# Altium integrated library NXP_Motor_Controllers.IntLib: 1 symbol
Pins are listed as number, name and electrical type; pins without a type are passive.

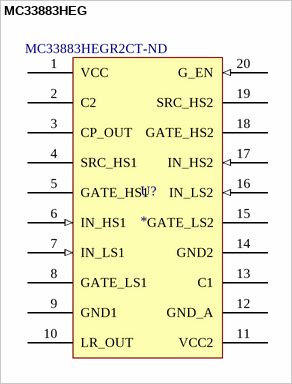
[diagram p0: symbol MC33883HEG]

## MC33883HEG
designator U?  Supplier Part Number 1: MC33883HEGR2CT-ND
IC H-BRIDGE PRE-DRIVER 20SOIC; Manufacturer: NXP; Manufacturer Part Number: MC33883HEGR2; Voltage Supply: 5.5 V ~ 28 V; Logic Voltage - VIL, VIH: 0.8V, 2V; Current - Peak Output (Source, Sink): 1A, 1A; Rise / Fall Time (Typ): 80ns, 80ns; Supplier 1: Digi-Key; Operating Temperature: -40°C ~ 150°C (TJ); Datasheet: http://cache.freescale.com/files/analog/doc/data_sheet/MC33883.pdf
footprint SOIC20_W
pins: 1 VCC (power) "Device power supply 1.", 2 C2 "External capacitor for internal charge pump.", 3 CP_OUT "External reservoir capacitor for internal charge pump.", 4 SRC_HS1 "Source of high-side 1 MOSFET.", 5 GATE_HS1 "Gate of high-side 1 MOSFET.", 6 IN_HS1 (in) "Logic input control of high-side 1 gate (i.e., IN_HS1 logic HIGH = GATE_HS1 HIGH).", 7 IN_LS1 (in) "Logic input control of low-side 1 gate (i.e., IN_HS1 logic HIGH = GATE_HS1 HIGH).", 8 GATE_LS1 "Gate of low-side 1 MOSFET.", 9 GND1 (power) "Device ground 1.", 10 LR_OUT (power) "Output of internal linear regulator.", 11 VCC2 (power) "Device power supply 2.", 12 GND_A (power) "Device analog ground.", 13 C1 "External capacitor for internal charge pump.", 14 GND2 (power) "Device ground 2.", 15 GATE_LS2 "Gate of low-side 2 MOSFET.", 16 IN_LS2 (in) "Logic input control of low-side 2 gate (i.e., IN_LS2 logic HIGH = GATE_LS2 HIGH).", 17 IN_HS2 (in) "Logic input control of high-side 2 gate (i.e., IN_LS2 logic HIGH = GATE_LS2 HIGH).", 18 GATE_HS2 "Gate of high-side 2 MOSFET.", 19 SRC_HS2 "Source of high-side 2 MOSFET.", 20 G_EN (in) "Logic input Enable control of device (i.e., G_EN logic HIGH = Full Operation, G_EN  logic LOW = Sleep Mode)."